# Altium schematic symbol library Diodes_Inc_Library.SchLib: 11 symbols
Pins are listed as number, name and electrical type; pins without a type are passive.

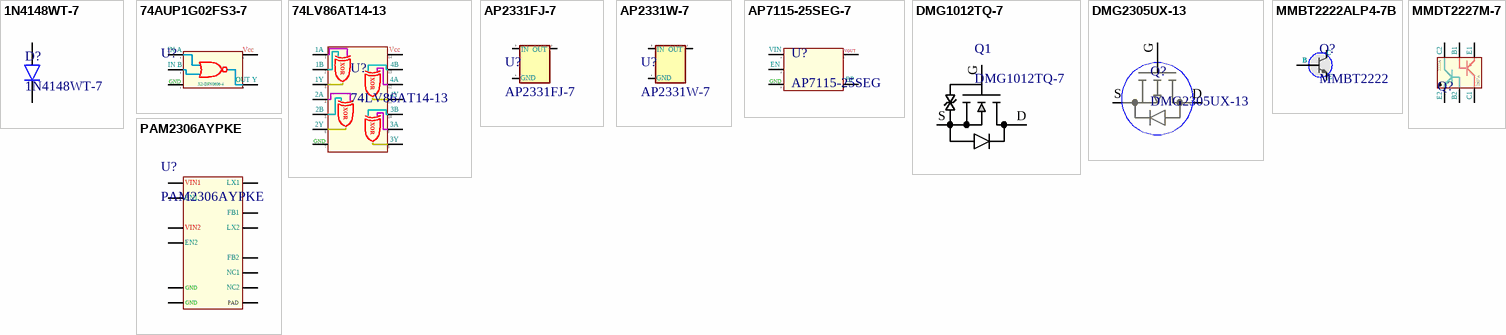
[diagram p0: symbols 1N4148WT-7 to PAM2306AYPKE]

## 1N4148WT-7
designator D?
Diodes - General Purpose, Power, Switching 100V Io/150mA T/R; Manufacturer: Diodes Incorporated; Configuration: Single; Type: Switching Diode; Max Surge Current: 2 A; Recovery Time: 4 ns; If - Forward Current: 0.25 A; Ir - Reverse Current: 1 uA; Vf - Forward Voltage: 1.25 V; Supplier 1: Mouser; Manufacturer Part Number: 1N4148WT-7; RoHS: RoHS Compliant; Category: Diodes - General Purpose, Power, Switching; Stock 1: 27563; Pricing 1: 1=0.341, 10=0.228, 100=0.096, 1000=0.065, 3000=0.051, 9000=0.044, 24000=0.041, 45000=0.038, 99000=0.033 (USD); Height: 0.65 mm; Length: 0.9 mm; Package / Case: SOD-523; Packaging: Cut Tape; Product: Switching Diodes; Series: 1N4148; Width: 1.3 mm; Brand: Diodes Incorporated; Mounting Style: SMD/SMT; Maximum Operating Temperature: + 150 C; Minimum Operating Temperature: - 65 C; Peak Reverse Voltage: 100 V; Standard Pack Qty: 3000; RoHS - Mouser: Y; Minimum Order Quantity: 1; Reeling: True; ComponentLink1URL: http://www.mouser.com/ds/2/115/ds30396-79548.pdf; ComponentLink1Description: http://www.mouser.com/ds/2/115/ds30396-79548.pdf
footprint SOD523 Diode
pins: A, C

## 74AUP1G02FS3-7
designator U?  (value not drawn)
Logic Gates Sgl 2 Input Pos NOR 0.8 to 3.6V 4mA 3.0V; Manufacturer: Diodes Incorporated; Output Current: 20 mA; Logic Family: 74AUP; Number of Gates: 1 Gate; Number of Input Lines: 2 Input; Number of Output Lines: 1 Output; High Level Output Current: - 4 mA; Propagation Delay Time: 34.2 ns; Supply Voltage - Min: 0.8 V; Supplier 1: Mouser; Manufacturer Part Number: 74AUP1G02FS3-7; RoHS: RoHS Compliant; Category: Logic Gates; Stock 1: 0; Pricing 1: 1=0.352, 10=0.267, 100=0.144, 1000=0.109, 5000=0.093, 10000=0.087, 25000=0.080, 50000=0.078 (USD); Operating Temperature Range: - 40 C to + 125 C; Package / Case: X2-DFN0808-4; Packaging: Cut Tape; Product: Single-Function Gate; Series: 74AUP1G02; Brand: Diodes Incorporated; Mounting Style: SMD/SMT; Logic Function: NOR; Low Level Output Current: 4 mA; Maximum Operating Temperature: + 125 C; Minimum Operating Temperature: - 40 C; Standard Pack Qty: 5000; Supply Voltage - Max: 3.6 V; RoHS - Mouser: Y; Minimum Order Quantity: 1; Reeling: True; ComponentLink1URL: https://www.mouser.com/ds/2/115/74AUP1G02-364210.pdf; ComponentLink1Description: https://www.mouser.com/ds/2/115/74AUP1G02-364210.pdf
footprint X2-DFN0808-4
pins: 1, 2, 3, 4, 5
text: IN A; Vcc; IN B; OUT Y; GND

## 74LV86AT14-13
designator U?
Logic Gates QUAD 2-INPUT EXC 2.0V to 5.5V Or Gate; Manufacturer: Diodes Incorporated; Output Current: 25 mA; Quiescent Current: 20 uA; Logic Family: 74LV; Number of Gates: 4 Gate; Number of Input Lines: 8 Input; Number of Output Lines: 4 Output; High Level Output Current: - 12 mA; Logic Function: XOR; Low Level Output Current: 12 mA; Operating Supply Voltage: 2 V to 5.5 V; Pd - Power Dissipation: 500 mW (1/2 W); Propagation Delay Time: 22.6 ns; Supply Voltage - Min: 2 V; Supplier 1: Mouser; Manufacturer Part Number: 74LV86AT14-13; RoHS: RoHS Compliant; Category: Logic Gates; Stock 1: 2438; Pricing 1: 1=0.381, 10=0.289, 100=0.157, 1000=0.117, 2500=0.101, 10000=0.096, 25000=0.087, 50000=0.085 (USD); Height: 1.05 mm; Length: 5.1 mm; Operating Temperature Range: - 40 C to + 150 C; Output Voltage: 5.5 V; Package / Case: TSSOP-14; Packaging: Cut Tape; Product: Single-Function Gate; Series: 74LV86; Width: 4.5 mm; Brand: Diodes Incorporated; Mounting Style: SMD/SMT; Maximum Operating Temperature: + 150 C; Minimum Operating Temperature: - 40 C; Operating Supply Current: 20 uA; Standard Pack Qty: 2500; Supply Voltage - Max: 5.5 V; RoHS - Mouser: Y; Minimum Order Quantity: 1; Reeling: True; ComponentLink1URL: http://www.mouser.com/ds/2/115/74LV86A-271640.pdf; ComponentLink1Description: http://www.mouser.com/ds/2/115/74LV86A-271640.pdf
footprint SOP65P640X120-14N
pins: 1, 2, 3, 4, 5, 6, 7, 8, 9, 10, 11, 12, 13, 14
text: 1A; Vcc; 1B; 4B; 1Y; 4A; 2A; 4Y; 2B; 3B; 2Y; 3A; 3Y; GND

## AP2331FJ-7
designator U?
USB Power SW Hi Side Single 2.7V to 5.2V 0.2A 3-Pin U-DFN2020 T/R; Manufacturer: Diodes; Output Current: 200mA; Number of Outputs: 1; On-State Resistance: 350mR; Turn-On Delay Time: 700us; Supplier 1: Mouser; Manufacturer Part Number: AP2331FJ-7; Stock 1: 4013; Pricing 1: 1=0.37, 10=0.275, 50=0.275, 100=0.149, 1000=0.112, 10000=0.09 (USD); Mount: Surface Mount; Case/Package: DFN; Min Operating Temperature: -40°C; Max Operating Temperature: 85°C; Packaging: Tape and Reel; Max Supply Voltage: 5.2V; Min Supply Voltage: 2.7V; Package Quantity: 3000; Radiation Hardening: No; ComponentLink1URL: http://www.mouser.com/ds/2/115/AP2331-371188.pdf; ComponentLink1Description: http://www.mouser.com/ds/2/115/AP2331-371188.pdf; ComponentLink2URL: http://www.diodes.com/datasheets/AP2331.pdf; ComponentLink2Description: http://www.diodes.com/datasheets/AP2331.pdf; ComponentLink3URL: https://www.diodes.com/assets/Datasheets/AP2331.pdf; ComponentLink3Description: https://www.diodes.com/assets/Datasheets/AP2331.pdf
footprint DiodesInc DFN2020-3
pins: GND 1, IN 3, OUT 2

## AP2331W-7
designator U?
LOAD SWITCH SC59; Manufacturer: Diodes; Number of Outputs: 1; Output Current: 200mA; Max Supply Voltage: 5.2V; Min Supply Voltage: 2.7V; Interface: On/Off; On-State Resistance: 350mR; Turn-On Delay Time: 700us; Fault Protection: Over Temperature,Reverse Current; Supplier 1: Mouser; Manufacturer Part Number: AP2331W-7; Stock 1: 6726; Pricing 1: 1=0.51, 10=0.388, 50=0.388, 100=0.21, 1000=0.158, 10000=0.127 (USD); Mount: Surface Mount; Case/Package: TO-236-3; Number of Pins: 59; Min Operating Temperature: -40°C; Max Operating Temperature: 85°C; Package Quantity: 3000; Packaging: Tape and Reel; Max Output Current: 200mA; Voltage: 5.2V; Current: 200mA; Length: 3.1mm; Height: 1.3mm; Width: 1.7mm; Radiation Hardening: No; REACH SVHC: No SVHC; ComponentLink1URL: https://datasheet.ciiva.com/18567/ap2331-18567928.pdf; ComponentLink1Description: https://datasheet.ciiva.com/18567/ap2331-18567928.pdf; ComponentLink2URL: https://datasheet.ciiva.com/18567/ap2331-18567929.pdf; ComponentLink2Description: https://datasheet.ciiva.com/18567/ap2331-18567929.pdf; ComponentLink3URL: https://datasheet.ciiva.com/18567/ap2331-18567930.pdf; ComponentLink3Description: https://datasheet.ciiva.com/18567/ap2331-18567930.pdf
footprint DiodesInc SC59-BEC
pins: GND 1, IN 3, OUT 2

## AP7115-25SEG-7
designator U?, comment AP7115-25SEG
IC REG LDO 2.5V 0.15A SOT353; Manufacturer: Diodes; Manufacturer Part Number: AP7115-25SEG-7; Max Power Dissipation: 500mW; Number of Outputs: 1; Max Input Voltage: 5.5V; Max Output Current: 150mA; Quiescent Current: 80uA; Polarity: Positive; Accuracy: 2%; Dropout Voltage: 200mV; Min Current Limit: 200mA; Power Supply Rejection Ratio (PSRR): 70dB; Supplier 1: Mouser; Stock 1: 5001; Pricing 1: 1=0.38, 10=0.288, 50=0.288, 100=0.156, 1000=0.117, 10000=0.095 (USD); Mount: Surface Mount; Case/Package: SOT-353-5; Number of Pins: 5; Contact Plating: Tin,Matte; Min Operating Temperature: -40°C; Max Operating Temperature: 85°C; Output Voltage: 2.5V; Packaging: Tape and Reel; Min Input Voltage: 2.5V; Package Quantity: 1; Output Current: 150mA; Number of Regulators: 1; Power Rating: 500mW; Input Bias Current: 80uA; Length: 3mm; Height: 1.1mm; Width: 1.6mm; ComponentLink1URL: https://datasheet.ciiva.com/2039/ap7115-2039392.pdf; ComponentLink1Description: https://datasheet.ciiva.com/2039/ap7115-2039392.pdf; ComponentLink2URL: https://datasheet.ciiva.com/26949/getdatasheetpartid-671041-26949332.pdf; ComponentLink2Description: https://datasheet.ciiva.com/26949/getdatasheetpartid-671041-26949332.pdf; ComponentLink3URL: https://datasheet.ciiva.com/17365/ap7115-17365815.pdf; ComponentLink3Description: https://datasheet.ciiva.com/17365/ap7115-17365815.pdf
footprint Diodes_SOT353_SC70-5_SOT65P210X110-5N
pins: 1, 2, 3, 4, 5
text: VIN; VOUT; EN; BP; GND

## DMG1012TQ-7
designator Q1
MOSFET NCH 20V 630MA SOT523; Manufacturer: Diodes; Rds On Max: 400mR; Input Capacitance: 60.67pF; Max Power Dissipation: 280mW; Supplier 1: Mouser; Manufacturer Part Number: DMG1012TQ-7; Stock 1: 11314; Pricing 1: 1=0.34, 10=0.225, 50=0.225, 100=0.094, 1000=0.064, 10000=0.043 (USD); Mount: Surface Mount; Case/Package: SOT-523; Number of Pins: 3; Min Operating Temperature: -55°C; Max Operating Temperature: 150°C; Packaging: Tape and Reel; Drain to Source Voltage (Vdss): 20V; Continuous Drain Current (ID): 630mA; ComponentLink1URL: http://www.mouser.com/ds/2/115/ds31783-892575.pdf; ComponentLink1Description: http://www.mouser.com/ds/2/115/ds31783-892575.pdf; ComponentLink2URL: https://www.diodes.com/assets/Datasheets/ds31783.pdf; ComponentLink2Description: https://www.diodes.com/assets/Datasheets/ds31783.pdf
footprint Diodes SOT523
pins: D, G, S

## DMG2305UX-13
designator Q?
MOSFET P-CH 20V 4.2A SOT23; Manufacturer: Diodes; Rise Time: 13.7ns; Rds On Max: 52mR; Input Capacitance: 808pF; Max Power Dissipation: 1.4W; Turn-On Delay Time: 10.8ns; Turn-Off Delay Time: 79.3ns; Fall Time: 34.7ns; Threshold Voltage: -900mV; Element Configuration: Single; Gate to Source Voltage (Vgs): 8V; Number of Channels: 1; Drain to Source Breakdown Voltage: -20V; On-State Resistance: 65MR; Supplier 1: RSComponents; Manufacturer Part Number: DMG2305UX-13; Stock 1: 12930; Pricing 1: 500=0.063, 1000=0.046, 2500=0.04, 5000=0.037 (EUR); Mount: Surface Mount; Case/Package: TO-236-3; Number of Pins: 3; Weight: 0.000282oz; Min Operating Temperature: -55°C; Max Operating Temperature: 150°C; Package Quantity: 1; Packaging: Tape and Reel; Continuous Drain Current (ID): 4.2A; Drain to Source Voltage (Vdss): 20V; Drain to Source Resistance: 52mR; Length: 3mm; Height: 1.1mm; Width: 1.4mm; Radiation Hardening: No; REACH SVHC: No SVHC; Lead Free: Lead Free; ComponentLink1URL: https://datasheet.ciiva.com/30023/dmg2305ux-30023840.pdf; ComponentLink1Description: https://datasheet.ciiva.com/30023/dmg2305ux-30023840.pdf; ComponentLink2URL: https://datasheet.ciiva.com/18566/dmg2305ux-18566951.pdf; ComponentLink2Description: https://datasheet.ciiva.com/18566/dmg2305ux-18566951.pdf; ComponentLink3URL: https://datasheet.ciiva.com/26993/dmg2305ux-26993543.pdf; ComponentLink3Description: https://datasheet.ciiva.com/26993/dmg2305ux-26993543.pdf; ComponentLink4URL: https://datasheet.ciiva.com/18566/dmg2305ux-18566949.pdf; ComponentLink4Description: https://datasheet.ciiva.com/18566/dmg2305ux-18566949.pdf; ComponentLink5URL: https://datasheet.ciiva.com/18566/dmg2305ux-18566950.pdf; ComponentLink5Description: https://datasheet.ciiva.com/18566/dmg2305ux-18566950.pdf
footprint Sot23-3 P-Channel Mosfet (P-Channel Mosfet)
pins: D, G, S

## MMBT2222ALP4-7B
designator Q?, comment MMBT2222
Bipolar Transistors - BJT General Purpose Tran X2-DFN1006-3 T&R 10K; Manufacturer: Diodes Incorporated; Manufacturer Part Number: MMBT2222ALP4-7B; Collector- Base Voltage VCBO: 75 V; Collector- Emitter Voltage VCEO Max: 40 V; Configuration: Single; DC Current Gain hFE Max: 300 at 150 mA at 10 V; Emitter- Base Voltage VEBO: 6 V; Collector-Emitter Saturation Voltage: 0.3 V; Continuous Collector Current: 600 mA; Transistor Polarity: NPN; DC Collector/Base Gain hfe Min: 35 at 0.1 mA at 10 V; Gain Bandwidth Product fT: 300 MHz; Maximum DC Collector Current: 0.6 A; Pd - Power Dissipation: 1 W; Supplier 1: Mouser; RoHS: RoHS Compliant; Category: Bipolar Transistors - BJT; Stock 1: 25680; Pricing 1: 1=0.301, 10=0.250, 100=0.129, 1000=0.059, 2500=0.045, 10000=0.038, 20000=0.037, 50000=0.034, 100000=0.030 (USD); Package / Case: X2-DFN1006-3; Packaging: Cut Tape; Series: MMBT2222; Brand: Diodes Incorporated; Mounting Style: SMD/SMT; Maximum Operating Temperature: + 150 C; Minimum Operating Temperature: - 55 C; Standard Pack Qty: 10000; RoHS - Mouser: Y; Minimum Order Quantity: 1; Reeling: True; ComponentLink1URL: http://www.mouser.com/ds/2/115/MMBT2222ALP4-219422.pdf; ComponentLink1Description: http://www.mouser.com/ds/2/115/MMBT2222ALP4-219422.pdf
pins: B, C, E

## MMDT2227M-7
designator Q?  (value not drawn)
Bipolar Transistors - BJT BIPOLAR TRANSISTOR NPN/PNP SOT-26; Manufacturer: Diodes Incorporated; Manufacturer Part Number: MMDT2227M-7; Collector- Base Voltage VCBO: 75 V; Collector- Emitter Voltage VCEO Max: 40 V; Configuration: Dual; Emitter- Base Voltage VEBO: 6 V; Transistor Polarity: NPN, PNP; DC Collector/Base Gain hfe Min: 35; Gain Bandwidth Product fT: 300 MHz; Maximum DC Collector Current: 0.6 A; Pd - Power Dissipation: 300 mW; Supplier 1: Mouser; RoHS: RoHS Compliant; Category: Bipolar Transistors - BJT; Stock 1: 3380; Pricing 1: 1=0.452, 10=0.290, 100=0.124, 1000=0.096, 3000=0.072, 9000=0.064, 24000=0.060, 45000=0.054, 99000=0.052 (USD); Height: 1.1 mm; Length: 3 mm; Package / Case: SOT-26-6; Packaging: Cut Tape; Series: MMDT22; Width: 1.6 mm; Brand: Diodes Incorporated; Mounting Style: SMD/SMT; Maximum Operating Temperature: + 150 C; Minimum Operating Temperature: - 55 C; Standard Pack Qty: 3000; RoHS - Mouser: Y; Minimum Order Quantity: 1; Reeling: True; ComponentLink1URL: https://www.mouser.com/ds/2/115/ds30718-48152.pdf; ComponentLink1Description: https://www.mouser.com/ds/2/115/ds30718-48152.pdf
footprint SOT26 MMDT2227M
pins: B1, B2, C1, C2, E1, E2
text: 2222A; 2907A

## PAM2306AYPKE
designator U?
Conv DC-DC Dual Step Down 2.5V 5.5V 12-Pin WDFN T/R; Manufacturer: Diodes; Number of Outputs: 2; Output Voltage: 3.3V; Max Output Current: 1A; Efficiency: 96%; Switching Frequency: 1.5MHz; Synchronous Rectifier: Yes; Operating Supply Current: 40uA; Supplier 1: Mouser; Manufacturer Part Number: PAM2306AYPKE; Stock 1: 11874; Pricing 1: 1=0.71, 10=0.589, 50=0.589, 100=0.38, 1000=0.304, 10000=0.248 (USD); Mount: Surface Mount; Number of Pins: 12; Min Operating Temperature: -40°C; Max Operating Temperature: 85°C; Packaging: Tape and Reel; Min Input Voltage: 2.5V; Max Input Voltage: 5.5V; Min Output Voltage: 3.3V; Output Current: 1A; Package Quantity: 3000; Min Supply Voltage: 2.5V; Operating Supply Voltage: 5.5V; Radiation Hardening: No; Lead Free: Lead Free; ComponentLink1URL: http://www.diodes.com/datasheets/PAM2306.pdf; ComponentLink1Description: http://www.diodes.com/datasheets/PAM2306.pdf; ComponentLink2URL: http://www.mouser.com/ds/2/115/PAM2306-336770.pdf; ComponentLink2Description: http://www.mouser.com/ds/2/115/PAM2306-336770.pdf; ComponentLink3URL: https://www.diodes.com/assets/Datasheets/PAM2306.pdf; ComponentLink3Description: https://www.diodes.com/assets/Datasheets/PAM2306.pdf
footprint DIODES_SON45P300X300X80-13N
pins: 1, 2, 3, 4, 5, 6, 7, 8, 9, 10, 11, 12, 13
text: VIN1; LX1; EN1; FB1; VIN2; LX2; EN2; FB2; NC1; GND; NC2; PAD